# Altium footprint library Connector_Wire.PcbLib: 290 footprints (part 18 of 19)
Each footprint in its own frame and in the unit in brackets; x right, y up, seen from the top. Pads: shape width x height; smd on the part's side, far side on the other; paste and mask are expansions set on the pad; w line width, h text height; cw(c..) or ccw(c..) is an arc to the next point about the centre after c.
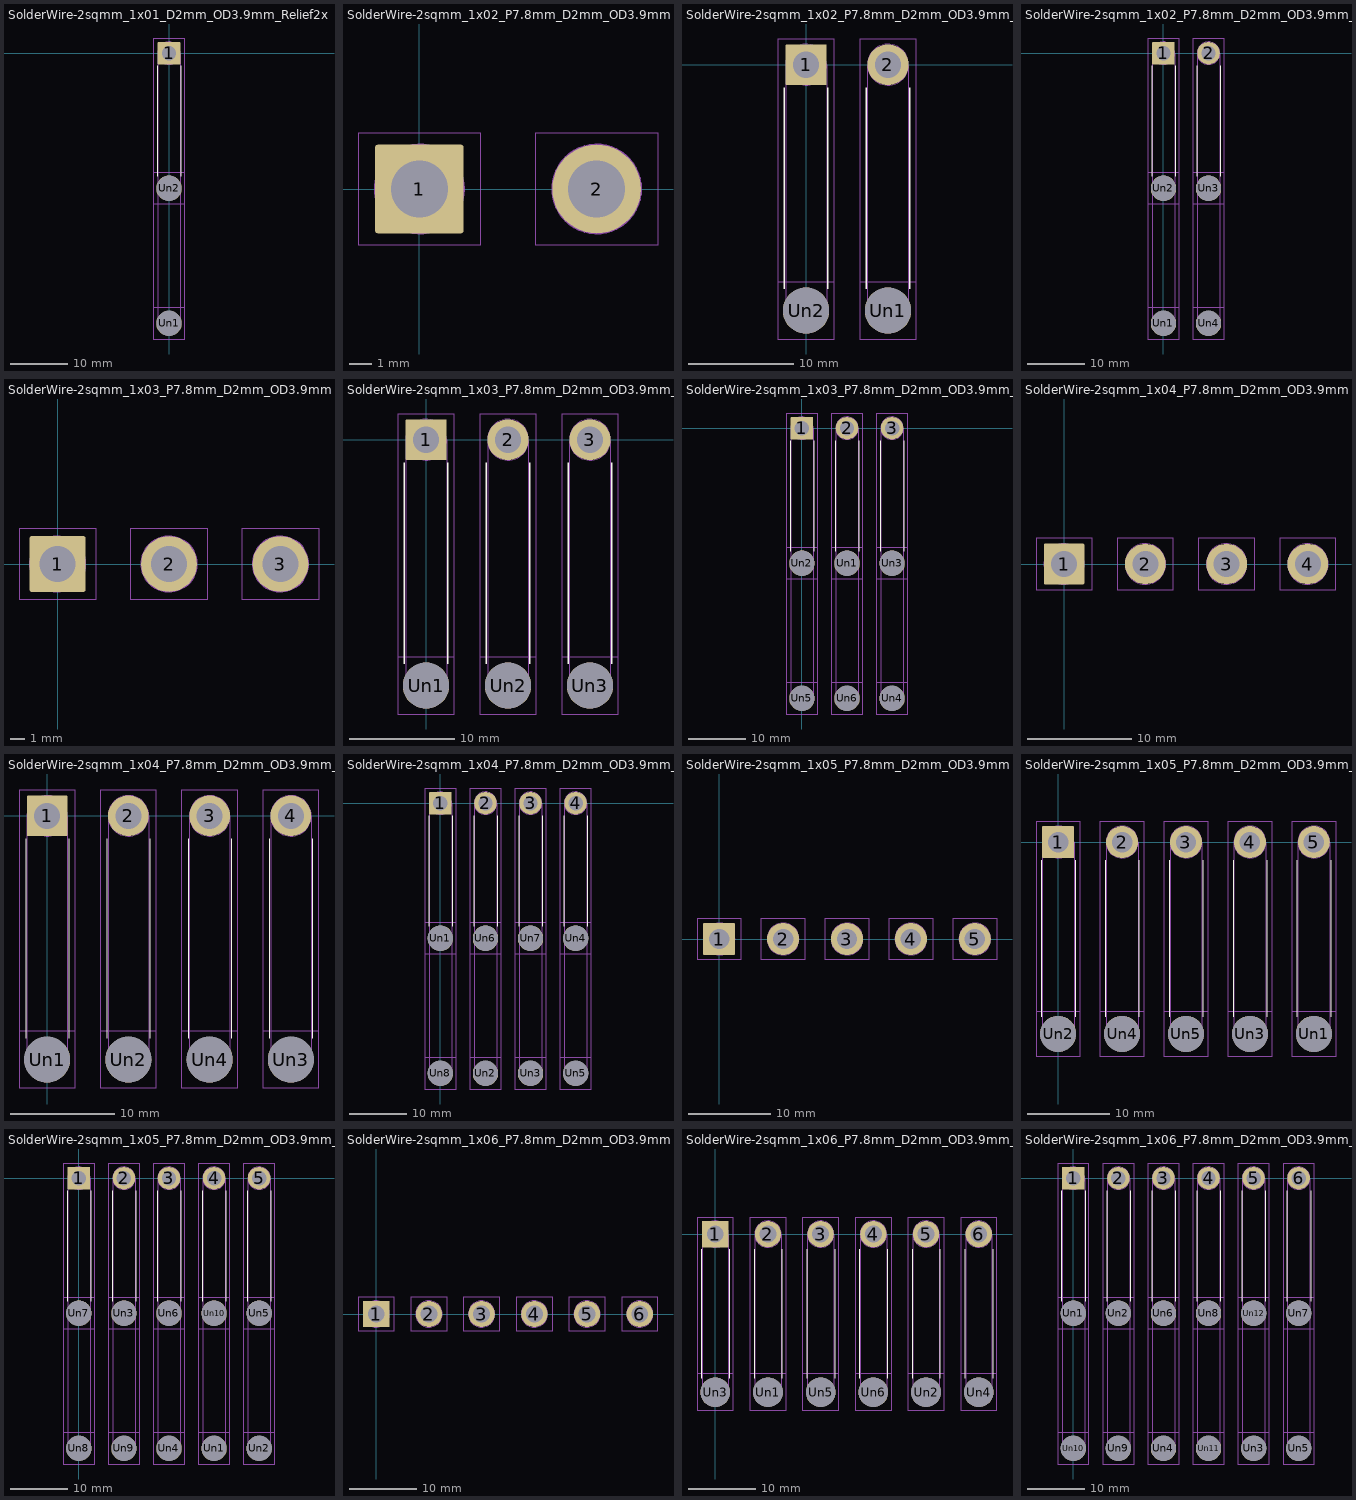
[diagram p17: the footprints below, top view; thin cyan lines are the x and y axes]

## SolderWire-2sqmm_1x01_D2mm_OD3.9mm_Relief2x [mm]
pads (3):
  rrect6% 3.9x3.9 hole 2.5: 1(0,0)
  round 4.4 hole 4.4: Un1(0,-46.8) Un2(0,-23.4)
F.SilkS:
  lines w0.12: -2.06,-21.34 -2.06,-2.21 ; 2.06,-21.34 2.06,-2.21
B.SilkS:
  lines w0.12: -2.06,-44.74 -2.06,-25.46 ; 2.06,-44.74 2.06,-25.46
B.CrtYd:
  lines w0.05: -2.7,-49.5 -2.7,-20.7 2.7,-20.7 2.7,-49.5 -2.7,-49.5
F.CrtYd:
  lines w0.05: -2.7,-49.5 -2.7,-44.1 2.7,-44.1 2.7,-49.5 -2.7,-49.5 ; -2.7,-26.1 -2.7,2.45 2.7,2.45 2.7,-26.1 -2.7,-26.1
B.Fab:
  circle w0.1: c0,-46.8 r1.95
  circle w0.1: c0,-23.4 r1.95
  lines w0.1: -1.95,-46.8 -1.95,-23.4 ; 1.95,-46.8 1.95,-23.4
F.Fab:
  circle w0.1: c0,-23.4 r1.95
  circle w0.1: c0,0 r1.95
  circle w0.1: c0,-46.8 r1.95
  lines w0.1: -1.95,-23.4 -1.95,0 ; 1.95,-23.4 1.95,0
  text "'.Designator'" at 0.84,-15.747 h1

## SolderWire-2sqmm_1x02_P7.8mm_D2mm_OD3.9mm [mm]
pads (2):
  rrect6% 3.9x3.9 hole 2.5: 1(0,0)
  round 3.9 hole 2.5: 2(7.8,0)
F.CrtYd:
  lines w0.05: -2.7,-2.45 2.7,-2.45 2.7,2.45 -2.7,2.45 -2.7,-2.45 ; 5.1,-2.45 5.1,2.45 10.5,2.45 10.5,-2.45 5.1,-2.45
F.Fab:
  circle w0.1: c7.8,0 r1.95
  circle w0.1: c0,0 r1.95
  text "'.Designator'" at 4.74,-4.047 h1

## SolderWire-2sqmm_1x02_P7.8mm_D2mm_OD3.9mm_Relief [mm]
pads (4):
  rrect6% 3.9x3.9 hole 2.5: 1(0,0)
  round 3.9 hole 2.5: 2(7.8,0)
  round 4.4 hole 4.4: Un1(7.8,-23.4) Un2(0,-23.4)
F.SilkS:
  lines w0.12: -2.06,-21.34 -2.06,-2.21 ; 2.06,-21.34 2.06,-2.21 ; 5.74,-21.34 5.74,-2.21 ; 9.86,-21.34 9.86,-2.21
B.CrtYd:
  lines w0.05: -2.7,-26.1 -2.7,-20.7 2.7,-20.7 2.7,-26.1 -2.7,-26.1 ; 5.1,-26.1 10.5,-26.1 10.5,-20.7 5.1,-20.7 5.1,-26.1
F.CrtYd:
  lines w0.05: -2.7,-26.1 2.7,-26.1 2.7,2.45 -2.7,2.45 -2.7,-26.1 ; 5.1,-26.1 5.1,2.45 10.5,2.45 10.5,-26.1 5.1,-26.1
F.Fab:
  circle w0.1: c7.8,-23.4 r1.95
  circle w0.1: c0,0 r1.95
  circle w0.1: c7.8,0 r1.95
  circle w0.1: c0,-23.4 r1.95
  lines w0.1: -1.95,-23.4 -1.95,0 ; 1.95,-23.4 1.95,0 ; 5.85,-23.4 5.85,0 ; 9.75,-23.4 9.75,0
  text "'.Designator'" at 4.74,-15.747 h1

## SolderWire-2sqmm_1x02_P7.8mm_D2mm_OD3.9mm_Relief2x [mm]
pads (6):
  rrect6% 3.9x3.9 hole 2.5: 1(0,0)
  round 3.9 hole 2.5: 2(7.8,0)
  round 4.4 hole 4.4: Un1(0,-46.8) Un2(0,-23.4) Un3(7.8,-23.4) Un4(7.8,-46.8)
F.SilkS:
  lines w0.12: -2.06,-21.34 -2.06,-2.21 ; 2.06,-21.34 2.06,-2.21 ; 5.74,-21.34 5.74,-2.21 ; 9.86,-21.34 9.86,-2.21
B.SilkS:
  lines w0.12: -2.06,-44.74 -2.06,-25.46 ; 2.06,-44.74 2.06,-25.46 ; 5.74,-44.74 5.74,-25.46 ; 9.86,-44.74 9.86,-25.46
B.CrtYd:
  lines w0.05: -2.7,-49.5 2.7,-49.5 2.7,-20.7 -2.7,-20.7 -2.7,-49.5 ; 5.1,-49.5 5.1,-20.7 10.5,-20.7 10.5,-49.5 5.1,-49.5
F.CrtYd:
  lines w0.05: -2.7,-49.5 -2.7,-44.1 2.7,-44.1 2.7,-49.5 -2.7,-49.5 ; -2.7,-26.1 2.7,-26.1 2.7,2.45 -2.7,2.45 -2.7,-26.1 ; 5.1,-49.5 5.1,-44.1 10.5,-44.1 10.5,-49.5 5.1,-49.5 ; 5.1,-26.1 5.1,2.45 10.5,2.45 10.5,-26.1 5.1,-26.1
B.Fab:
  circle w0.1: c7.8,-46.8 r1.95
  circle w0.1: c0,-23.4 r1.95
  circle w0.1: c7.8,-23.4 r1.95
  circle w0.1: c0,-46.8 r1.95
  lines w0.1: -1.95,-46.8 -1.95,-23.4 ; 1.95,-46.8 1.95,-23.4 ; 5.85,-46.8 5.85,-23.4 ; 9.75,-46.8 9.75,-23.4
F.Fab:
  circle w0.1: c7.8,-46.8 r1.95
  circle w0.1: c7.8,-23.4 r1.95
  circle w0.1: c0,-46.8 r1.95
  circle w0.1: c7.8,0 r1.95
  circle w0.1: c0,0 r1.95
  circle w0.1: c0,-23.4 r1.95
  lines w0.1: -1.95,-23.4 -1.95,0 ; 1.95,-23.4 1.95,0 ; 5.85,-23.4 5.85,0 ; 9.75,-23.4 9.75,0
  text "'.Designator'" at 4.74,-15.747 h1

## SolderWire-2sqmm_1x03_P7.8mm_D2mm_OD3.9mm [mm]
pads (3):
  rrect6% 3.9x3.9 hole 2.5: 1(0,0)
  round 3.9 hole 2.5: 2(7.8,0) 3(15.6,0)
F.CrtYd:
  lines w0.05: -2.7,-2.45 2.7,-2.45 2.7,2.45 -2.7,2.45 -2.7,-2.45 ; 5.1,-2.45 10.5,-2.45 10.5,2.45 5.1,2.45 5.1,-2.45 ; 12.9,-2.45 18.3,-2.45 18.3,2.45 12.9,2.45 12.9,-2.45
F.Fab:
  circle w0.1: c7.8,0 r1.95
  circle w0.1: c15.6,0 r1.95
  circle w0.1: c0,0 r1.95
  text "'.Designator'" at 3.831,-0.827 h0.98

## SolderWire-2sqmm_1x03_P7.8mm_D2mm_OD3.9mm_Relief [mm]
pads (6):
  rrect6% 3.9x3.9 hole 2.5: 1(0,0)
  round 3.9 hole 2.5: 2(7.8,0) 3(15.6,0)
  round 4.4 hole 4.4: Un1(0,-23.4) Un2(7.8,-23.4) Un3(15.6,-23.4)
F.SilkS:
  lines w0.12: -2.06,-21.34 -2.06,-2.21 ; 2.06,-21.34 2.06,-2.21 ; 5.74,-21.34 5.74,-2.21 ; 9.86,-21.34 9.86,-2.21 ; 13.54,-21.34 13.54,-2.21 ; 17.66,-21.34 17.66,-2.21
B.CrtYd:
  lines w0.05: -2.7,-26.1 -2.7,-20.7 2.7,-20.7 2.7,-26.1 -2.7,-26.1 ; 5.1,-26.1 10.5,-26.1 10.5,-20.7 5.1,-20.7 5.1,-26.1 ; 12.9,-26.1 18.3,-26.1 18.3,-20.7 12.9,-20.7 12.9,-26.1
F.CrtYd:
  lines w0.05: -2.7,-26.1 2.7,-26.1 2.7,2.45 -2.7,2.45 -2.7,-26.1 ; 5.1,-26.1 5.1,2.45 10.5,2.45 10.5,-26.1 5.1,-26.1 ; 12.9,-26.1 18.3,-26.1 18.3,2.45 12.9,2.45 12.9,-26.1
F.Fab:
  circle w0.1: c0,0 r1.95
  circle w0.1: c7.8,-23.4 r1.95
  circle w0.1: c15.6,0 r1.95
  circle w0.1: c15.6,-23.4 r1.95
  circle w0.1: c0,-23.4 r1.95
  circle w0.1: c7.8,0 r1.95
  lines w0.1: -1.95,-23.4 -1.95,0 ; 1.95,-23.4 1.95,0 ; 5.85,-23.4 5.85,0 ; 9.75,-23.4 9.75,0 ; 13.65,-23.4 13.65,0 ; 17.55,-23.4 17.55,0
  text "'.Designator'" at 8.64,-15.747 h1

## SolderWire-2sqmm_1x03_P7.8mm_D2mm_OD3.9mm_Relief2x [mm]
pads (9):
  rrect6% 3.9x3.9 hole 2.5: 1(0,0)
  round 3.9 hole 2.5: 2(7.8,0) 3(15.6,0)
  round 4.4 hole 4.4: Un1(7.8,-23.4) Un2(0,-23.4) Un3(15.6,-23.4) Un4(15.6,-46.8) Un5(0,-46.8) Un6(7.8,-46.8)
F.SilkS:
  lines w0.12: -2.06,-21.34 -2.06,-2.21 ; 2.06,-21.34 2.06,-2.21 ; 5.74,-21.34 5.74,-2.21 ; 9.86,-21.34 9.86,-2.21 ; 13.54,-21.34 13.54,-2.21 ; 17.66,-21.34 17.66,-2.21
B.SilkS:
  lines w0.12: -2.06,-44.74 -2.06,-25.46 ; 2.06,-44.74 2.06,-25.46 ; 5.74,-44.74 5.74,-25.46 ; 9.86,-44.74 9.86,-25.46 ; 13.54,-44.74 13.54,-25.46 ; 17.66,-44.74 17.66,-25.46
B.CrtYd:
  lines w0.05: -2.7,-49.5 2.7,-49.5 2.7,-20.7 -2.7,-20.7 -2.7,-49.5 ; 5.1,-49.5 10.5,-49.5 10.5,-20.7 5.1,-20.7 5.1,-49.5 ; 12.9,-49.5 18.3,-49.5 18.3,-20.7 12.9,-20.7 12.9,-49.5
F.CrtYd:
  lines w0.05: -2.7,-49.5 2.7,-49.5 2.7,-44.1 -2.7,-44.1 -2.7,-49.5 ; -2.7,-26.1 -2.7,2.45 2.7,2.45 2.7,-26.1 -2.7,-26.1 ; 5.1,-49.5 5.1,-44.1 10.5,-44.1 10.5,-49.5 5.1,-49.5 ; 5.1,-26.1 10.5,-26.1 10.5,2.45 5.1,2.45 5.1,-26.1 ; 12.9,-49.5 18.3,-49.5 18.3,-44.1 12.9,-44.1 12.9,-49.5 ; 12.9,-26.1 12.9,2.45 18.3,2.45 18.3,-26.1 12.9,-26.1
B.Fab:
  circle w0.1: c15.6,-23.4 r1.95
  circle w0.1: c7.8,-23.4 r1.95
  circle w0.1: c15.6,-46.8 r1.95
  circle w0.1: c0,-46.8 r1.95
  circle w0.1: c7.8,-46.8 r1.95
  circle w0.1: c0,-23.4 r1.95
  lines w0.1: -1.95,-46.8 -1.95,-23.4 ; 1.95,-46.8 1.95,-23.4 ; 5.85,-46.8 5.85,-23.4 ; 9.75,-46.8 9.75,-23.4 ; 13.65,-46.8 13.65,-23.4 ; 17.55,-46.8 17.55,-23.4
F.Fab:
  circle w0.1: c15.6,-46.8 r1.95
  circle w0.1: c15.6,0 r1.95
  circle w0.1: c7.8,0 r1.95
  circle w0.1: c7.8,-46.8 r1.95
  circle w0.1: c0,-23.4 r1.95
  circle w0.1: c7.8,-23.4 r1.95
  circle w0.1: c0,0 r1.95
  circle w0.1: c15.6,-23.4 r1.95
  circle w0.1: c0,-46.8 r1.95
  lines w0.1: -1.95,-23.4 -1.95,0 ; 1.95,-23.4 1.95,0 ; 5.85,-23.4 5.85,0 ; 9.75,-23.4 9.75,0 ; 13.65,-23.4 13.65,0 ; 17.55,-23.4 17.55,0
  text "'.Designator'" at 8.64,-15.747 h1

## SolderWire-2sqmm_1x04_P7.8mm_D2mm_OD3.9mm [mm]
pads (4):
  rrect6% 3.9x3.9 hole 2.5: 1(0,0)
  round 3.9 hole 2.5: 2(7.8,0) 3(15.6,0) 4(23.4,0)
F.CrtYd:
  lines w0.05: -2.7,-2.45 2.7,-2.45 2.7,2.45 -2.7,2.45 -2.7,-2.45 ; 5.1,-2.45 5.1,2.45 10.5,2.45 10.5,-2.45 5.1,-2.45 ; 12.9,-2.45 12.9,2.45 18.3,2.45 18.3,-2.45 12.9,-2.45 ; 20.7,-2.45 20.7,2.45 26.1,2.45 26.1,-2.45 20.7,-2.45
F.Fab:
  circle w0.1: c7.8,0 r1.95
  circle w0.1: c23.4,0 r1.95
  circle w0.1: c15.6,0 r1.95
  circle w0.1: c0,0 r1.95
  text "'.Designator'" at 12.54,-4.047 h1

## SolderWire-2sqmm_1x04_P7.8mm_D2mm_OD3.9mm_Relief [mm]
pads (8):
  rrect6% 3.9x3.9 hole 2.5: 1(0,0)
  round 3.9 hole 2.5: 2(7.8,0) 3(15.6,0) 4(23.4,0)
  round 4.4 hole 4.4: Un1(0,-23.4) Un2(7.8,-23.4) Un3(23.4,-23.4) Un4(15.6,-23.4)
F.SilkS:
  lines w0.12: -2.06,-21.34 -2.06,-2.21 ; 2.06,-21.34 2.06,-2.21 ; 5.74,-21.34 5.74,-2.21 ; 9.86,-21.34 9.86,-2.21 ; 13.54,-21.34 13.54,-2.21 ; 17.66,-21.34 17.66,-2.21 ; 21.34,-21.34 21.34,-2.21 ; 25.46,-21.34 25.46,-2.21
B.CrtYd:
  lines w0.05: -2.7,-26.1 -2.7,-20.7 2.7,-20.7 2.7,-26.1 -2.7,-26.1 ; 5.1,-26.1 5.1,-20.7 10.5,-20.7 10.5,-26.1 5.1,-26.1 ; 12.9,-26.1 12.9,-20.7 18.3,-20.7 18.3,-26.1 12.9,-26.1 ; 20.7,-26.1 20.7,-20.7 26.1,-20.7 26.1,-26.1 20.7,-26.1
F.CrtYd:
  lines w0.05: -2.7,-26.1 2.7,-26.1 2.7,2.45 -2.7,2.45 -2.7,-26.1 ; 5.1,-26.1 10.5,-26.1 10.5,2.45 5.1,2.45 5.1,-26.1 ; 12.9,-26.1 12.9,2.45 18.3,2.45 18.3,-26.1 12.9,-26.1 ; 20.7,-26.1 20.7,2.45 26.1,2.45 26.1,-26.1 20.7,-26.1
F.Fab:
  circle w0.1: c15.6,0 r1.95
  circle w0.1: c7.8,0 r1.95
  circle w0.1: c15.6,-23.4 r1.95
  circle w0.1: c7.8,-23.4 r1.95
  circle w0.1: c23.4,0 r1.95
  circle w0.1: c23.4,-23.4 r1.95
  circle w0.1: c0,-23.4 r1.95
  circle w0.1: c0,0 r1.95
  lines w0.1: -1.95,-23.4 -1.95,0 ; 1.95,-23.4 1.95,0 ; 5.85,-23.4 5.85,0 ; 9.75,-23.4 9.75,0 ; 13.65,-23.4 13.65,0 ; 17.55,-23.4 17.55,0 ; 21.45,-23.4 21.45,0 ; 25.35,-23.4 25.35,0
  text "'.Designator'" at 12.54,-15.747 h1

## SolderWire-2sqmm_1x04_P7.8mm_D2mm_OD3.9mm_Relief2x [mm]
pads (12):
  rrect6% 3.9x3.9 hole 2.5: 1(0,0)
  round 3.9 hole 2.5: 2(7.8,0) 3(15.6,0) 4(23.4,0)
  round 4.4 hole 4.4: Un1(0,-23.4) Un2(7.8,-46.8) Un3(15.6,-46.8) Un4(23.4,-23.4) Un5(23.4,-46.8) Un6(7.8,-23.4) Un7(15.6,-23.4) Un8(0,-46.8)
F.SilkS:
  lines w0.12: -2.06,-21.34 -2.06,-2.21 ; 2.06,-21.34 2.06,-2.21 ; 5.74,-21.34 5.74,-2.21 ; 9.86,-21.34 9.86,-2.21 ; 13.54,-21.34 13.54,-2.21 ; 17.66,-21.34 17.66,-2.21 ; 21.34,-21.34 21.34,-2.21 ; 25.46,-21.34 25.46,-2.21
B.SilkS:
  lines w0.12: -2.06,-44.74 -2.06,-25.46 ; 2.06,-44.74 2.06,-25.46 ; 5.74,-44.74 5.74,-25.46 ; 9.86,-44.74 9.86,-25.46 ; 13.54,-44.74 13.54,-25.46 ; 17.66,-44.74 17.66,-25.46 ; 21.34,-44.74 21.34,-25.46 ; 25.46,-44.74 25.46,-25.46
B.CrtYd:
  lines w0.05: -2.7,-49.5 -2.7,-20.7 2.7,-20.7 2.7,-49.5 -2.7,-49.5 ; 5.1,-49.5 10.5,-49.5 10.5,-20.7 5.1,-20.7 5.1,-49.5 ; 12.9,-49.5 12.9,-20.7 18.3,-20.7 18.3,-49.5 12.9,-49.5 ; 20.7,-49.5 26.1,-49.5 26.1,-20.7 20.7,-20.7 20.7,-49.5
F.CrtYd:
  lines w0.05: -2.7,-49.5 2.7,-49.5 2.7,-44.1 -2.7,-44.1 -2.7,-49.5 ; -2.7,-26.1 -2.7,2.45 2.7,2.45 2.7,-26.1 -2.7,-26.1 ; 5.1,-49.5 10.5,-49.5 10.5,-44.1 5.1,-44.1 5.1,-49.5 ; 5.1,-26.1 10.5,-26.1 10.5,2.45 5.1,2.45 5.1,-26.1 ; 12.9,-49.5 18.3,-49.5 18.3,-44.1 12.9,-44.1 12.9,-49.5 ; 12.9,-26.1 12.9,2.45 18.3,2.45 18.3,-26.1 12.9,-26.1 ; 20.7,-49.5 20.7,-44.1 26.1,-44.1 26.1,-49.5 20.7,-49.5 ; 20.7,-26.1 26.1,-26.1 26.1,2.45 20.7,2.45 20.7,-26.1
B.Fab:
  circle w0.1: c15.6,-23.4 r1.95
  circle w0.1: c0,-23.4 r1.95
  circle w0.1: c15.6,-46.8 r1.95
  circle w0.1: c7.8,-46.8 r1.95
  circle w0.1: c0,-46.8 r1.95
  circle w0.1: c7.8,-23.4 r1.95
  circle w0.1: c23.4,-23.4 r1.95
  circle w0.1: c23.4,-46.8 r1.95
  lines w0.1: -1.95,-46.8 -1.95,-23.4 ; 1.95,-46.8 1.95,-23.4 ; 5.85,-46.8 5.85,-23.4 ; 9.75,-46.8 9.75,-23.4 ; 13.65,-46.8 13.65,-23.4 ; 17.55,-46.8 17.55,-23.4 ; 21.45,-46.8 21.45,-23.4 ; 25.35,-46.8 25.35,-23.4
F.Fab:
  circle w0.1: c7.8,0 r1.95
  circle w0.1: c15.6,0 r1.95
  circle w0.1: c7.8,-46.8 r1.95
  circle w0.1: c15.6,-46.8 r1.95
  circle w0.1: c23.4,-23.4 r1.95
  circle w0.1: c0,-46.8 r1.95
  circle w0.1: c0,0 r1.95
  circle w0.1: c7.8,-23.4 r1.95
  circle w0.1: c15.6,-23.4 r1.95
  circle w0.1: c0,-23.4 r1.95
  circle w0.1: c23.4,-46.8 r1.95
  circle w0.1: c23.4,0 r1.95
  lines w0.1: -1.95,-23.4 -1.95,0 ; 1.95,-23.4 1.95,0 ; 5.85,-23.4 5.85,0 ; 9.75,-23.4 9.75,0 ; 13.65,-23.4 13.65,0 ; 17.55,-23.4 17.55,0 ; 21.45,-23.4 21.45,0 ; 25.35,-23.4 25.35,0
  text "'.Designator'" at 12.54,-15.747 h1

## SolderWire-2sqmm_1x05_P7.8mm_D2mm_OD3.9mm [mm]
pads (5):
  rrect6% 3.9x3.9 hole 2.5: 1(0,0)
  round 3.9 hole 2.5: 2(7.8,0) 3(15.6,0) 4(23.4,0) 5(31.2,0)
F.CrtYd:
  lines w0.05: -2.7,-2.45 -2.7,2.45 2.7,2.45 2.7,-2.45 -2.7,-2.45 ; 5.1,-2.45 5.1,2.45 10.5,2.45 10.5,-2.45 5.1,-2.45 ; 12.9,-2.45 12.9,2.45 18.3,2.45 18.3,-2.45 12.9,-2.45 ; 20.7,-2.45 26.1,-2.45 26.1,2.45 20.7,2.45 20.7,-2.45 ; 28.5,-2.45 33.9,-2.45 33.9,2.45 28.5,2.45 28.5,-2.45
F.Fab:
  circle w0.1: c23.4,0 r1.95
  circle w0.1: c7.8,0 r1.95
  circle w0.1: c31.2,0 r1.95
  circle w0.1: c15.6,0 r1.95
  circle w0.1: c0,0 r1.95
  text "'.Designator'" at 11.631,-0.827 h0.98

## SolderWire-2sqmm_1x05_P7.8mm_D2mm_OD3.9mm_Relief [mm]
pads (10):
  rrect6% 3.9x3.9 hole 2.5: 1(0,0)
  round 3.9 hole 2.5: 2(7.8,0) 3(15.6,0) 4(23.4,0) 5(31.2,0)
  round 4.4 hole 4.4: Un1(31.2,-23.4) Un2(0,-23.4) Un3(23.4,-23.4) Un4(7.8,-23.4) Un5(15.6,-23.4)
F.SilkS:
  lines w0.12: -2.06,-21.34 -2.06,-2.21 ; 2.06,-21.34 2.06,-2.21 ; 5.74,-21.34 5.74,-2.21 ; 9.86,-21.34 9.86,-2.21 ; 13.54,-21.34 13.54,-2.21 ; 17.66,-21.34 17.66,-2.21 ; 21.34,-21.34 21.34,-2.21 ; 25.46,-21.34 25.46,-2.21 ; 29.14,-21.34 29.14,-2.21 ; 33.26,-21.34 33.26,-2.21
B.CrtYd:
  lines w0.05: -2.7,-26.1 2.7,-26.1 2.7,-20.7 -2.7,-20.7 -2.7,-26.1 ; 5.1,-26.1 5.1,-20.7 10.5,-20.7 10.5,-26.1 5.1,-26.1 ; 12.9,-26.1 18.3,-26.1 18.3,-20.7 12.9,-20.7 12.9,-26.1 ; 20.7,-26.1 26.1,-26.1 26.1,-20.7 20.7,-20.7 20.7,-26.1 ; 28.5,-26.1 33.9,-26.1 33.9,-20.7 28.5,-20.7 28.5,-26.1
F.CrtYd:
  lines w0.05: -2.7,-26.1 2.7,-26.1 2.7,2.45 -2.7,2.45 -2.7,-26.1 ; 5.1,-26.1 10.5,-26.1 10.5,2.45 5.1,2.45 5.1,-26.1 ; 12.9,-26.1 12.9,2.45 18.3,2.45 18.3,-26.1 12.9,-26.1 ; 20.7,-26.1 20.7,2.45 26.1,2.45 26.1,-26.1 20.7,-26.1 ; 28.5,-26.1 33.9,-26.1 33.9,2.45 28.5,2.45 28.5,-26.1
F.Fab:
  circle w0.1: c0,0 r1.95
  circle w0.1: c15.6,0 r1.95
  circle w0.1: c15.6,-23.4 r1.95
  circle w0.1: c0,-23.4 r1.95
  circle w0.1: c23.4,-23.4 r1.95
  circle w0.1: c23.4,0 r1.95
  circle w0.1: c31.2,0 r1.95
  circle w0.1: c7.8,-23.4 r1.95
  circle w0.1: c7.8,0 r1.95
  circle w0.1: c31.2,-23.4 r1.95
  lines w0.1: -1.95,-23.4 -1.95,0 ; 1.95,-23.4 1.95,0 ; 5.85,-23.4 5.85,0 ; 9.75,-23.4 9.75,0 ; 13.65,-23.4 13.65,0 ; 17.55,-23.4 17.55,0 ; 21.45,-23.4 21.45,0 ; 25.35,-23.4 25.35,0 ; 29.25,-23.4 29.25,0 ; 33.15,-23.4 33.15,0
  text "'.Designator'" at 16.44,-15.747 h1

## SolderWire-2sqmm_1x05_P7.8mm_D2mm_OD3.9mm_Relief2x [mm]
pads (15):
  rrect6% 3.9x3.9 hole 2.5: 1(0,0)
  round 3.9 hole 2.5: 2(7.8,0) 3(15.6,0) 4(23.4,0) 5(31.2,0)
  round 4.4 hole 4.4: Un1(23.4,-46.8) Un2(31.2,-46.8) Un3(7.8,-23.4) Un4(15.6,-46.8) Un5(31.2,-23.4) Un6(15.6,-23.4) Un7(0,-23.4) Un8(0,-46.8) Un9(7.8,-46.8) Un10(23.4,-23.4)
F.SilkS:
  lines w0.12: -2.06,-21.34 -2.06,-2.21 ; 2.06,-21.34 2.06,-2.21 ; 5.74,-21.34 5.74,-2.21 ; 9.86,-21.34 9.86,-2.21 ; 13.54,-21.34 13.54,-2.21 ; 17.66,-21.34 17.66,-2.21 ; 21.34,-21.34 21.34,-2.21 ; 25.46,-21.34 25.46,-2.21 ; 29.14,-21.34 29.14,-2.21 ; 33.26,-21.34 33.26,-2.21
B.SilkS:
  lines w0.12: -2.06,-44.74 -2.06,-25.46 ; 2.06,-44.74 2.06,-25.46 ; 5.74,-44.74 5.74,-25.46 ; 9.86,-44.74 9.86,-25.46 ; 13.54,-44.74 13.54,-25.46 ; 17.66,-44.74 17.66,-25.46 ; 21.34,-44.74 21.34,-25.46 ; 25.46,-44.74 25.46,-25.46 ; 29.14,-44.74 29.14,-25.46 ; 33.26,-44.74 33.26,-25.46
B.CrtYd:
  lines w0.05: -2.7,-49.5 -2.7,-20.7 2.7,-20.7 2.7,-49.5 -2.7,-49.5 ; 5.1,-49.5 10.5,-49.5 10.5,-20.7 5.1,-20.7 5.1,-49.5 ; 12.9,-49.5 12.9,-20.7 18.3,-20.7 18.3,-49.5 12.9,-49.5 ; 20.7,-49.5 26.1,-49.5 26.1,-20.7 20.7,-20.7 20.7,-49.5 ; 28.5,-49.5 28.5,-20.7 33.9,-20.7 33.9,-49.5 28.5,-49.5
F.CrtYd:
  lines w0.05: -2.7,-49.5 2.7,-49.5 2.7,-44.1 -2.7,-44.1 -2.7,-49.5 ; -2.7,-26.1 -2.7,2.45 2.7,2.45 2.7,-26.1 -2.7,-26.1 ; 5.1,-49.5 5.1,-44.1 10.5,-44.1 10.5,-49.5 5.1,-49.5 ; 5.1,-26.1 5.1,2.45 10.5,2.45 10.5,-26.1 5.1,-26.1 ; 12.9,-49.5 18.3,-49.5 18.3,-44.1 12.9,-44.1 12.9,-49.5 ; 12.9,-26.1 18.3,-26.1 18.3,2.45 12.9,2.45 12.9,-26.1 ; 20.7,-49.5 26.1,-49.5 26.1,-44.1 20.7,-44.1 20.7,-49.5 ; 20.7,-26.1 20.7,2.45 26.1,2.45 26.1,-26.1 20.7,-26.1 ; 28.5,-49.5 33.9,-49.5 33.9,-44.1 28.5,-44.1 28.5,-49.5 ; 28.5,-26.1 28.5,2.45 33.9,2.45 33.9,-26.1 28.5,-26.1
B.Fab:
  circle w0.1: c31.2,-46.8 r1.95
  circle w0.1: c7.8,-23.4 r1.95
  circle w0.1: c23.4,-23.4 r1.95
  circle w0.1: c23.4,-46.8 r1.95
  circle w0.1: c31.2,-23.4 r1.95
  circle w0.1: c15.6,-23.4 r1.95
  circle w0.1: c0,-23.4 r1.95
  circle w0.1: c7.8,-46.8 r1.95
  circle w0.1: c0,-46.8 r1.95
  circle w0.1: c15.6,-46.8 r1.95
  lines w0.1: -1.95,-46.8 -1.95,-23.4 ; 1.95,-46.8 1.95,-23.4 ; 5.85,-46.8 5.85,-23.4 ; 9.75,-46.8 9.75,-23.4 ; 13.65,-46.8 13.65,-23.4 ; 17.55,-46.8 17.55,-23.4 ; 21.45,-46.8 21.45,-23.4 ; 25.35,-46.8 25.35,-23.4 ; 29.25,-46.8 29.25,-23.4 ; 33.15,-46.8 33.15,-23.4
F.Fab:
  circle w0.1: c7.8,0 r1.95
  circle w0.1: c23.4,-23.4 r1.95
  circle w0.1: c31.2,0 r1.95
  circle w0.1: c15.6,-23.4 r1.95
  circle w0.1: c7.8,-46.8 r1.95
  circle w0.1: c31.2,-46.8 r1.95
  circle w0.1: c15.6,0 r1.95
  circle w0.1: c15.6,-46.8 r1.95
  circle w0.1: c31.2,-23.4 r1.95
  circle w0.1: c0,0 r1.95
  circle w0.1: c7.8,-23.4 r1.95
  circle w0.1: c0,-46.8 r1.95
  circle w0.1: c23.4,0 r1.95
  circle w0.1: c0,-23.4 r1.95
  circle w0.1: c23.4,-46.8 r1.95
  lines w0.1: -1.95,-23.4 -1.95,0 ; 1.95,-23.4 1.95,0 ; 5.85,-23.4 5.85,0 ; 9.75,-23.4 9.75,0 ; 13.65,-23.4 13.65,0 ; 17.55,-23.4 17.55,0 ; 21.45,-23.4 21.45,0 ; 25.35,-23.4 25.35,0 ; 29.25,-23.4 29.25,0 ; 33.15,-23.4 33.15,0
  text "'.Designator'" at 16.44,-15.747 h1

## SolderWire-2sqmm_1x06_P7.8mm_D2mm_OD3.9mm [mm]
pads (6):
  rrect6% 3.9x3.9 hole 2.5: 1(0,0)
  round 3.9 hole 2.5: 2(7.8,0) 3(15.6,0) 4(23.4,0) 5(31.2,0) 6(39,0)
F.CrtYd:
  lines w0.05: -2.7,-2.45 2.7,-2.45 2.7,2.45 -2.7,2.45 -2.7,-2.45 ; 5.1,-2.45 5.1,2.45 10.5,2.45 10.5,-2.45 5.1,-2.45 ; 12.9,-2.45 18.3,-2.45 18.3,2.45 12.9,2.45 12.9,-2.45 ; 20.7,-2.45 26.1,-2.45 26.1,2.45 20.7,2.45 20.7,-2.45 ; 28.5,-2.45 33.9,-2.45 33.9,2.45 28.5,2.45 28.5,-2.45 ; 36.3,-2.45 41.7,-2.45 41.7,2.45 36.3,2.45 36.3,-2.45
F.Fab:
  circle w0.1: c31.2,0 r1.95
  circle w0.1: c15.6,0 r1.95
  circle w0.1: c39,0 r1.95
  circle w0.1: c0,0 r1.95
  circle w0.1: c7.8,0 r1.95
  circle w0.1: c23.4,0 r1.95
  text "'.Designator'" at 20.34,-4.047 h1

## SolderWire-2sqmm_1x06_P7.8mm_D2mm_OD3.9mm_Relief [mm]
pads (12):
  rrect6% 3.9x3.9 hole 2.5: 1(0,0)
  round 3.9 hole 2.5: 2(7.8,0) 3(15.6,0) 4(23.4,0) 5(31.2,0) 6(39,0)
  round 4.4 hole 4.4: Un1(7.8,-23.4) Un2(31.2,-23.4) Un3(0,-23.4) Un4(39,-23.4) Un5(15.6,-23.4) Un6(23.4,-23.4)
F.SilkS:
  lines w0.12: -2.06,-21.34 -2.06,-2.21 ; 2.06,-21.34 2.06,-2.21 ; 5.74,-21.34 5.74,-2.21 ; 9.86,-21.34 9.86,-2.21 ; 13.54,-21.34 13.54,-2.21 ; 17.66,-21.34 17.66,-2.21 ; 21.34,-21.34 21.34,-2.21 ; 25.46,-21.34 25.46,-2.21 ; 29.14,-21.34 29.14,-2.21 ; 33.26,-21.34 33.26,-2.21 ; 36.94,-21.34 36.94,-2.21 ; 41.06,-21.34 41.06,-2.21
B.CrtYd:
  lines w0.05: -2.7,-26.1 2.7,-26.1 2.7,-20.7 -2.7,-20.7 -2.7,-26.1 ; 5.1,-26.1 5.1,-20.7 10.5,-20.7 10.5,-26.1 5.1,-26.1 ; 12.9,-26.1 18.3,-26.1 18.3,-20.7 12.9,-20.7 12.9,-26.1 ; 20.7,-26.1 20.7,-20.7 26.1,-20.7 26.1,-26.1 20.7,-26.1 ; 28.5,-26.1 33.9,-26.1 33.9,-20.7 28.5,-20.7 28.5,-26.1 ; 36.3,-26.1 36.3,-20.7 41.7,-20.7 41.7,-26.1 36.3,-26.1
F.CrtYd:
  lines w0.05: -2.7,-26.1 -2.7,2.45 2.7,2.45 2.7,-26.1 -2.7,-26.1 ; 5.1,-26.1 10.5,-26.1 10.5,2.45 5.1,2.45 5.1,-26.1 ; 12.9,-26.1 18.3,-26.1 18.3,2.45 12.9,2.45 12.9,-26.1 ; 20.7,-26.1 20.7,2.45 26.1,2.45 26.1,-26.1 20.7,-26.1 ; 28.5,-26.1 28.5,2.45 33.9,2.45 33.9,-26.1 28.5,-26.1 ; 36.3,-26.1 41.7,-26.1 41.7,2.45 36.3,2.45 36.3,-26.1
F.Fab:
  circle w0.1: c31.2,-23.4 r1.95
  circle w0.1: c15.6,0 r1.95
  circle w0.1: c23.4,-23.4 r1.95
  circle w0.1: c0,0 r1.95
  circle w0.1: c23.4,0 r1.95
  circle w0.1: c39,0 r1.95
  circle w0.1: c31.2,0 r1.95
  circle w0.1: c7.8,0 r1.95
  circle w0.1: c15.6,-23.4 r1.95
  circle w0.1: c0,-23.4 r1.95
  circle w0.1: c7.8,-23.4 r1.95
  circle w0.1: c39,-23.4 r1.95
  lines w0.1: -1.95,-23.4 -1.95,0 ; 1.95,-23.4 1.95,0 ; 5.85,-23.4 5.85,0 ; 9.75,-23.4 9.75,0 ; 13.65,-23.4 13.65,0 ; 17.55,-23.4 17.55,0 ; 21.45,-23.4 21.45,0 ; 25.35,-23.4 25.35,0 ; 29.25,-23.4 29.25,0 ; 33.15,-23.4 33.15,0 ; 37.05,-23.4 37.05,0 ; 40.95,-23.4 40.95,0
  text "'.Designator'" at 20.34,-15.747 h1

## SolderWire-2sqmm_1x06_P7.8mm_D2mm_OD3.9mm_Relief2x [mm]
pads (18):
  rrect6% 3.9x3.9 hole 2.5: 1(0,0)
  round 3.9 hole 2.5: 2(7.8,0) 3(15.6,0) 4(23.4,0) 5(31.2,0) 6(39,0)
  round 4.4 hole 4.4: Un1(0,-23.4) Un2(7.8,-23.4) Un3(31.2,-46.8) Un4(15.6,-46.8) Un5(39,-46.8) Un6(15.6,-23.4) Un7(39,-23.4) Un8(23.4,-23.4) Un9(7.8,-46.8) Un10(0,-46.8) Un11(23.4,-46.8) Un12(31.2,-23.4)
F.SilkS:
  lines w0.12: -2.06,-21.34 -2.06,-2.21 ; 2.06,-21.34 2.06,-2.21 ; 5.74,-21.34 5.74,-2.21 ; 9.86,-21.34 9.86,-2.21 ; 13.54,-21.34 13.54,-2.21 ; 17.66,-21.34 17.66,-2.21 ; 21.34,-21.34 21.34,-2.21 ; 25.46,-21.34 25.46,-2.21 ; 29.14,-21.34 29.14,-2.21 ; 33.26,-21.34 33.26,-2.21 ; 36.94,-21.34 36.94,-2.21 ; 41.06,-21.34 41.06,-2.21
B.SilkS:
  lines w0.12: -2.06,-44.74 -2.06,-25.46 ; 2.06,-44.74 2.06,-25.46 ; 5.74,-44.74 5.74,-25.46 ; 9.86,-44.74 9.86,-25.46 ; 13.54,-44.74 13.54,-25.46 ; 17.66,-44.74 17.66,-25.46 ; 21.34,-44.74 21.34,-25.46 ; 25.46,-44.74 25.46,-25.46 ; 29.14,-44.74 29.14,-25.46 ; 33.26,-44.74 33.26,-25.46 ; 36.94,-44.74 36.94,-25.46 ; 41.06,-44.74 41.06,-25.46
B.CrtYd:
  lines w0.05: -2.7,-49.5 2.7,-49.5 2.7,-20.7 -2.7,-20.7 -2.7,-49.5 ; 5.1,-49.5 10.5,-49.5 10.5,-20.7 5.1,-20.7 5.1,-49.5 ; 12.9,-49.5 12.9,-20.7 18.3,-20.7 18.3,-49.5 12.9,-49.5 ; 20.7,-49.5 20.7,-20.7 26.1,-20.7 26.1,-49.5 20.7,-49.5 ; 28.5,-49.5 28.5,-20.7 33.9,-20.7 33.9,-49.5 28.5,-49.5 ; 36.3,-49.5 36.3,-20.7 41.7,-20.7 41.7,-49.5 36.3,-49.5
F.CrtYd:
  lines w0.05: -2.7,-49.5 2.7,-49.5 2.7,-44.1 -2.7,-44.1 -2.7,-49.5 ; -2.7,-26.1 -2.7,2.45 2.7,2.45 2.7,-26.1 -2.7,-26.1 ; 5.1,-49.5 10.5,-49.5 10.5,-44.1 5.1,-44.1 5.1,-49.5 ; 5.1,-26.1 5.1,2.45 10.5,2.45 10.5,-26.1 5.1,-26.1 ; 12.9,-49.5 12.9,-44.1 18.3,-44.1 18.3,-49.5 12.9,-49.5 ; 12.9,-26.1 12.9,2.45 18.3,2.45 18.3,-26.1 12.9,-26.1 ; 20.7,-49.5 20.7,-44.1 26.1,-44.1 26.1,-49.5 20.7,-49.5 ; 20.7,-26.1 26.1,-26.1 26.1,2.45 20.7,2.45 20.7,-26.1 ; 28.5,-49.5 28.5,-44.1 33.9,-44.1 33.9,-49.5 28.5,-49.5 ; 28.5,-26.1 28.5,2.45 33.9,2.45 33.9,-26.1 28.5,-26.1 ; 36.3,-49.5 41.7,-49.5 41.7,-44.1 36.3,-44.1 36.3,-49.5 ; 36.3,-26.1 41.7,-26.1 41.7,2.45 36.3,2.45 36.3,-26.1
B.Fab:
  circle w0.1: c31.2,-23.4 r1.95
  circle w0.1: c31.2,-46.8 r1.95
  circle w0.1: c0,-46.8 r1.95
  circle w0.1: c7.8,-46.8 r1.95
  circle w0.1: c15.6,-46.8 r1.95
  circle w0.1: c39,-46.8 r1.95
  circle w0.1: c0,-23.4 r1.95
  circle w0.1: c23.4,-46.8 r1.95
  circle w0.1: c39,-23.4 r1.95
  circle w0.1: c15.6,-23.4 r1.95
  circle w0.1: c7.8,-23.4 r1.95
  circle w0.1: c23.4,-23.4 r1.95
  lines w0.1: -1.95,-46.8 -1.95,-23.4 ; 1.95,-46.8 1.95,-23.4 ; 5.85,-46.8 5.85,-23.4 ; 9.75,-46.8 9.75,-23.4 ; 13.65,-46.8 13.65,-23.4 ; 17.55,-46.8 17.55,-23.4 ; 21.45,-46.8 21.45,-23.4 ; 25.35,-46.8 25.35,-23.4 ; 29.25,-46.8 29.25,-23.4 ; 33.15,-46.8 33.15,-23.4 ; 37.05,-46.8 37.05,-23.4 ; 40.95,-46.8 40.95,-23.4
F.Fab:
  circle w0.1: c0,0 r1.95
  circle w0.1: c23.4,-46.8 r1.95
  circle w0.1: c15.6,-46.8 r1.95
  circle w0.1: c39,0 r1.95
  circle w0.1: c7.8,-23.4 r1.95
  circle w0.1: c0,-46.8 r1.95
  circle w0.1: c39,-46.8 r1.95
  circle w0.1: c15.6,-23.4 r1.95
  circle w0.1: c0,-23.4 r1.95
  circle w0.1: c39,-23.4 r1.95
  circle w0.1: c7.8,0 r1.95
  circle w0.1: c23.4,-23.4 r1.95
  circle w0.1: c23.4,0 r1.95
  circle w0.1: c31.2,-46.8 r1.95
  circle w0.1: c7.8,-46.8 r1.95
  circle w0.1: c31.2,-23.4 r1.95
  circle w0.1: c31.2,0 r1.95
  circle w0.1: c15.6,0 r1.95
  lines w0.1: -1.95,-23.4 -1.95,0 ; 1.95,-23.4 1.95,0 ; 5.85,-23.4 5.85,0 ; 9.75,-23.4 9.75,0 ; 13.65,-23.4 13.65,0 ; 17.55,-23.4 17.55,0 ; 21.45,-23.4 21.45,0 ; 25.35,-23.4 25.35,0 ; 29.25,-23.4 29.25,0 ; 33.15,-23.4 33.15,0 ; 37.05,-23.4 37.05,0 ; 40.95,-23.4 40.95,0
  text "'.Designator'" at 20.34,-15.747 h1